# Altium footprint library PLCC-32.PcbLib: 1 footprints
Each footprint in its own frame and in the unit in brackets; x right, y up, seen from the top. Pads: shape width x height; smd on the part's side, far side on the other; paste and mask are expansions set on the pad; w line width, h text height; cw(c..) or ccw(c..) is an arc to the next point about the centre after c.
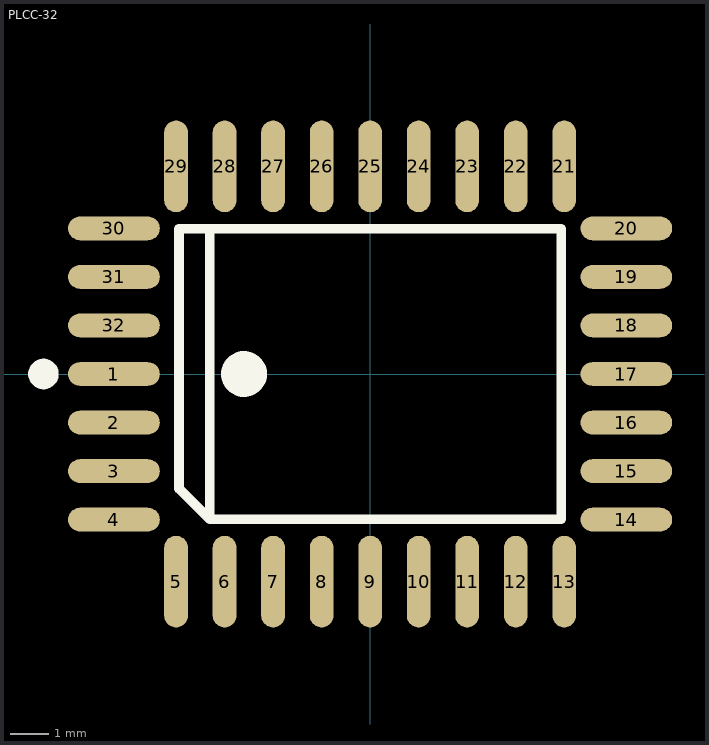
[diagram p0: the footprint, top view; thin cyan lines are the x and y axes]

## PLCC-32 [mm]
pads (32):
  oval 2.4x0.62 smd: 1(-6.705,0) 2(-6.705,-1.27) 3(-6.705,-2.54) 4(-6.705,-3.81) 14(6.705,-3.81) 15(6.705,-2.54) 16(6.705,-1.27) 17(6.705,0) 18(6.705,1.27) 19(6.705,2.54) 20(6.705,3.81) 30(-6.705,3.81) 31(-6.705,2.54) 32(-6.705,1.27)
  oval 0.62x2.4 smd: 5(-5.08,-5.435) 6(-3.81,-5.435) 7(-2.54,-5.435) 8(-1.27,-5.435) 9(0,-5.435) 10(1.27,-5.435) 11(2.54,-5.435) 12(3.81,-5.435) 13(5.08,-5.435) 21(5.08,5.435) 22(3.81,5.435) 23(2.54,5.435) 24(1.27,5.435) 25(0,5.435) 26(-1.27,5.435) 27(-2.54,5.435) 28(-3.81,5.435) 29(-5.08,5.435)
Top Overlay:
  circle w0.4: c-8.55,0 r0.2
  circle w0.6: c-3.3,0 r0.3
  lines w0.254: -4.2,3.8 -4.2,-3.8 ; -4.2,-3.8 5,-3.8 5,3.8 -5,3.8 -5,-3 -4.2,-3.8